# EAGLE library part LM22676MRE-5.0/NOPB (library 24vto5v)
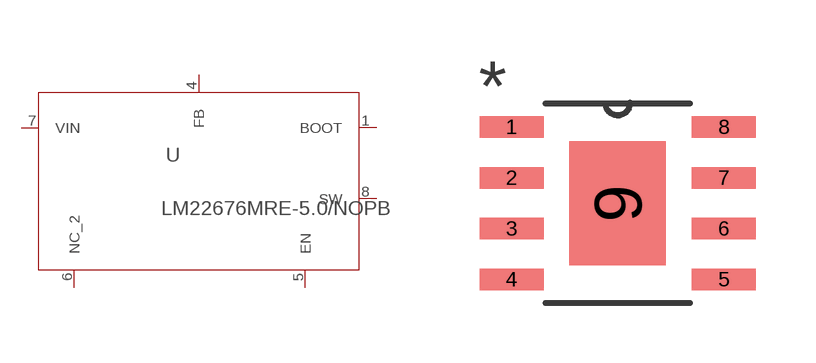
[diagram p0: symbol with the pads of MRA08B; footprint MRA08B]

Designator prefix -

## LM22676MRE-5.0/NOPB (DATASHEETURL: httpwww.ti.comproductlm22676; FREQUENCY: 500000.0; IMAX: 3.0; MANUFACTURER_NAME: Texas Instruments; MANUFACTURER_PART_NUMBER: LM22676MRE5.0NOPB; MKTG_PACKAGE: NA; NSID: LM22676MRE5.0NOPB; PACKAGE: NA; VENDOR: Texas Instruments)  [MRA08B]
1  BOOT  pas
4  FB  pas
5  EN  pas
6  NC_2  pas
7  VIN  pas
8  SW  pas

## Footprint MRA08B (pad centres in mm)
smd 1.6 x 0.533: 1 -2.654,1.905; 2 -2.654,0.635; 3 -2.654,-0.635; 4 -2.654,-1.905; 5 2.654,-1.905; 6 2.654,-0.635; 7 2.654,0.635; 8 2.654,1.905
smd 2.413 x 3.099: 9 0,0